# Altium schematic symbol library AltiumLib.SchLib: 341 symbols (part 2 of 5)
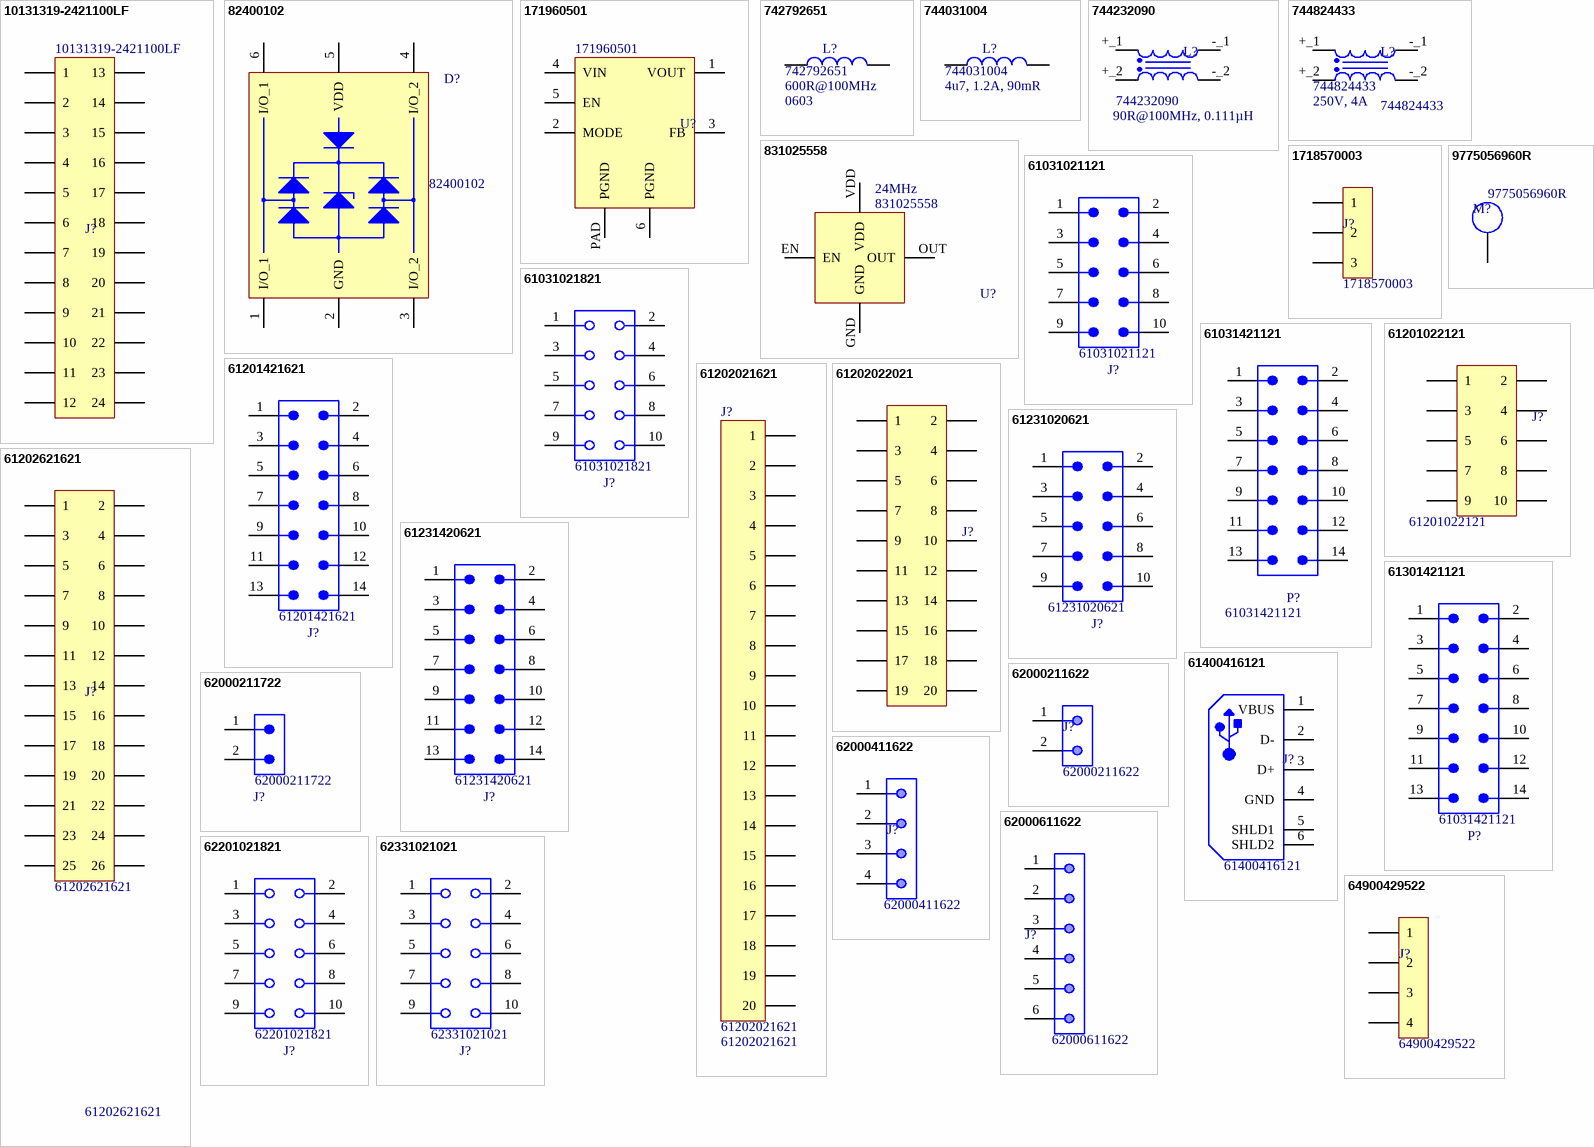
[diagram p20: symbols 10131319-2421100LF to 64900429522]

## 61202621621
designator J?
Board Connector, 26 Contact(s), 2 Row(s), Male, Straight, 0.1 inch Pitch, Solder Terminal, Locking, Black Insulator, Receptacle; Manufacturer: Würth Elektronik; Body Depth: 0.358inch; Number Of PCB Rows: 2; Contact Style: SQ PIN-SKT; Filter Feature: No; Rated Current (Signal): 3A; Insulation Resistance: 1GR; Reliability: COMMERCIAL; Contact Pattern: RECTANGULAR; PCB Contact Row Spacing: 2.54mm; Number of Contacts: 26; Contact Resistance: 20mR; Option: General Purpose; Dielectric Withstanding Voltage (AC): 500V; Body Length: 1.502inch; Number Of Connectors: 1; Polarization Key: POLARIZED HOUSING; Reference Standard: UL; Contact Finish - Mating: GOLD; Contact Gender: Male; Contact Material: Copper Alloy; Contact Finish - Termination: Gold (Au) - with Nickel (Ni) barrier; Termination: Solder; IEC Conformance: No; RoHS Compliant: Yes; Mating Contact Pitch: 0.1inch; Min Operating Temperature: -40°C; Number of Rows Loaded: 2; Body Breadth: 0.358inch; Max Operating Temperature: 125°C; JESD-609 Code: e4; DIN Conformance: No; Mounting Option 1: LOCKING; Flammability Rating: UL94 V-0; PCB Contact Pattern: RECTANGULAR; Insulation Material: Polybutylene; Terminal Length: 0.118inch; Insulation Color: Black; Reach SVHC Compliant: Yes; Connector Type: BOARD CONNECTOR; Sub-Category: Header; Mixed Contacts: No; Mating Contact Row Spacing: 0.1inch; Body/Shell Style: RECEPTACLE; Mounting Style: STRAIGHT; Terminal Pitch: 2.54mm; Category: Connector; MIL Conformance: No; Mount: Board; System: Connector; Manufacturer Part Number: 61202621621; Component Type: Standard_Connector; Value: 61202621621
footprint 61202621621 (WR-BHD 2.54 mm Male Box Header)
pins: 1, 2, 3, 4, 5, 6, 7, 8, 9, 10, 11, 12, 13, 14, 15, 16, 17, 18, 19, 20, 21, 22, 23, 24, 25, 26

## 61231020621
designator J?
WR-BHD Male Box Header, SMT Straight, pitch 2.54mm, 2 row, 10 pin; Manufacturer: Würth Elektronik; Contact Resistance: 20mOhm; Insulation Resistance: 1000MOhm; Rated Current: 3A; Working Voltage: 250V; Withstanding Voltage: 500V; Manufacturer Part Number: 61231020621; Category: Connector; Match Code: WR-BHD; ComponentLink1Description: Website Link; ComponentLink1URL: https://www.we-online.com/redexpert/article/61231020621?ad; ComponentLink2Description: Datasheet Link; ComponentLink2URL: https://www.we-online.com/redexpert/spec/61231020621?ad; Mount: Surface Mount; Operating Temperature Max: 125°C; Operating Temperature Min: -40°C; Packaging: Tape and Reel with Cap; Length: 20.5mm; Width: 9.1mm; Height: 9.1mm; Gender: Male; Number of Pins: 10; Number of Rows: 2; Orientation: Straight; Pitch: 2.54mm; Sub-Category: Header; Value: 61231020621
footprint 61231020621
pins: 1, 2, 3, 4, 5, 6, 7, 8, 9, 10

## 61231420621
designator J?
WR-BHD Male Box Header, SMT Straight, pitch 2.54mm, 2 row, 14 pin; Manufacturer: Würth Elektronik; Contact Resistance: 20mOhm; Insulation Resistance: 1000MOhm; Rated Current: 3A; Working Voltage: 250V; Withstanding Voltage: 500V; Manufacturer Part Number: 61231420621; Category: Connector; Match Code: WR-BHD; ComponentLink1Description: Website Link; ComponentLink1URL: https://www.we-online.com/redexpert/article/61231420621?ad; ComponentLink2Description: Datasheet Link; ComponentLink2URL: https://www.we-online.com/redexpert/spec/61231420621?ad; Mount: Surface Mount; Operating Temperature Max: 125°C; Operating Temperature Min: -40°C; Packaging: Tape and Reel with Cap; Length: 25.58mm; Width: 9.1mm; Height: 9.1mm; Gender: Male; Number of Pins: 14; Number of Rows: 2; Orientation: Straight; Pitch: 2.54mm; Sub-Category: Header; Value: 61231420621
footprint 61231420621
pins: 1, 2, 3, 4, 5, 6, 7, 8, 9, 10, 11, 12, 13, 14

## 61301421121
designator P?  value 61031421121  (hidden comment: 61301421121)
WR-PHD Pin Header, THT, Vertical, pitch 2.54mm, 2 Row, 14P; Manufacturer: Würth Elektronik; Contact Resistance: 20mOhm; Rated Current: 3A; Working Voltage: 250V; Withstanding Voltage: 500V; Manufacturer Part Number: 61301421121; Category: Connector; Match Code: WR-PHD; ComponentLink1Description: Website Link; ComponentLink1URL: https://www.we-online.com/redexpert/article/61301421121?ad; ComponentLink2Description: Datasheet Link; ComponentLink2URL: https://www.we-online.com/redexpert/spec/61301421121?ad; Mount: Through Hole; Operating Temperature Max: 105°C; Operating Temperature Min: -40°C; Packaging: Bag; Gender: Pin Header; Number of Pins: 14; Number of Rows: 2; Orientation: Vertical; Pitch: 2.54mm; Sub-Category: Header
footprint 61301421121
pins: 1, 2, 3, 4, 5, 6, 7, 8, 9, 10, 11, 12, 13, 14

## 61400416121
designator J?
USB Connector, 4 Contact(s), Female, Right Angle, Solder Terminal, Locking, Receptacle; Manufacturer: Würth Elektronik; IEC Conformance: No; PCB Contact Pattern: RECTANGULAR; Board Mounting Option: SOLDERABLE RETENTION CLIPS; Insulation Resistance: 1GR; Body Depth: 0.65inch; Connector Type: TELECOM AND DATACOM CONNECTOR; Body Breadth: 0.421inch; Polarization Key: POLARIZED HOUSING; Durability: 1500Cycles; Rated Current (Signal): 1.5A; Reliability: COMMERCIAL; Dielectric Withstanding Voltage (AC): 750V; Contact Resistance: 20mR; Number Of PCB Rows: 2; PCB Contact Row Spacing: 2.0066mm; Option: General Purpose; Body Length: 0.472inch; Number of Contacts: 4; Reference Standard: UL; Additional Feature: ROHS COMPLIANT; Number Of Connectors: 1; Contact Finish - Termination: Gold (Au); Category: Connector; Empty Shell: No; RoHS Compliant: Yes; Shell Material: Bronze; Mounting Style: RIGHT ANGLE; REACH SVHC: Yes; Min Operating Temperature: -40°C; Terminal Length: 0.126inch; Insulation Material: Polybutylene; MIL Conformance: No; Contact Style: USB; Mixed Contacts: No; Termination: Solder; Contact Gender: Female; Contact Material: Copper Alloy; Max Operating Temperature: 105°C; Shell Finish: Nickel; Body/Shell Style: RECEPTACLE; Mount: Board; Terminal Pitch: 2.4892mm; JESD-609 Code: e4; Contact Finish - Mating: GOLD; DIN Conformance: No; Flammability Rating: UL94 V-0; Mounting Option 1: LOCKING; Filter Feature: No; Sub-Category: USB; Mating Information: NO; System: Connector; Manufacturer Part Number: 61400416121; Component Type: Standard_Connector; Value: 61400416121
footprint 61400416121 (USB 2.0 Horizontal THT); pin to pad 5>Shell1 6>Shell2
pins: 1 VBUS, 2 D-, 3 D+, 4 GND, 5 SHLD1, 6 SHLD2

## 62000211622
designator J?
WR-WTB Male Vertical Shrouded Header, pitch 2mm, 2p; Manufacturer: Würth Elektronik; Pin Number: 2; Contact Resistance: 20mOhm; Rated Current: 2A; Withstanding Voltage: 800VAC; Working Voltage: 125VAC; ComponentLink1Description: Manufacturer; ComponentLink1URL: http://www.we-online.de; ComponentLink2Description: Datasheet; ComponentLink2URL: https://www.we-online.com/catalog/datasheet/62000211622.pdf; Pitch: 2mm; Published Date: January 2020; Mounting Technology: THT; Packaging: Bag; Operating Temperature: -25 to +85degC; Part Number: 62000211622; Gender: Male; Type: Vertical; Category: Connector; Sub-Category: Header; Value: 62000211622
footprint 62000211622 (2.00mm Male Vertical Shrouded Header, 2p)
pins: 1, 2

## 62000211722
designator J?
WR-WTB THT Male Horizontal Shrouded Header, pitch 2mm, 2pins; Manufacturer: Würth Elektronik; Contact Resistance: 20mOhm; Rated Current: 2A; Working Voltage: 125VAC; Withstanding Voltage: 800VAC; ComponentLink1Description: Website Link; ComponentLink1URL: https://www.we-online.com/redexpert/article/62000211722?ad; ComponentLink2Description: Datasheet Link; ComponentLink2URL: https://www.we-online.com/redexpert/spec/62000211722?ad; Manufacturer Part Number: 62000211722; Category: Connector; Match Code: WR-WTB; Mount: Through Hole; Operating Temperature Max: 85°C; Operating Temperature Min: -25°C; Packaging: Bag; Length: 6mm; Width: 7.6mm; Height: 4.5mm; Gender: Male; Number of Pins: 2; Number of Rows: 1; Orientation: Horizontal; Pitch: 2mm; Sub-Category: Header; Value: 62000211722
footprint 62000211722
pins: 1, 2

## 62000411622
designator J?
WR-WTB Male Vertical Shrouded Header, pitch 2mm, 4p; Manufacturer: Würth Elektronik; Pin Number: 4; Contact Resistance: 20mOhm; Rated Current: 2A; Withstanding Voltage: 800VAC; Working Voltage: 125VAC; ComponentLink1Description: Manufacturer; ComponentLink1URL: http://www.we-online.de; ComponentLink2Description: Datasheet; ComponentLink2URL: https://www.we-online.com/catalog/datasheet/62000411622.pdf; Pitch: 2mm; Published Date: January 2020; Mounting Technology: THT; Packaging: Bag; Operating Temperature: -25 to +85degC; Gender: Male; Type: Vertical; Category: Connector; Sub-Category: Header; Value: 62000411622
footprint 62000411622 (2.00mm Male Vertical Shrouded Header, 4p)
pins: 1, 2, 3, 4

## 62000611622
designator J?
WR-WTB Male Vertical Shrouded Header, pitch 2mm, 6p; Manufacturer: Würth Elektronik; Pin Number: 6; Contact Resistance: 20mOhm; Rated Current: 2A; Withstanding Voltage: 800VAC; Working Voltage: 125VAC; ComponentLink1Description: Manufacturer; ComponentLink1URL: http://www.we-online.de; ComponentLink2Description: Datasheet; ComponentLink2URL: https://www.we-online.com/catalog/datasheet/62000611622.pdf; Pitch: 2mm; Published Date: January 2020; Mounting Technology: THT; Packaging: Bag; Operating Temperature: -25 to +85degC; Gender: Male; Type: Vertical; Category: Connector; Sub-Category: Header; Value: 62000611622
footprint 62000611622 (2.00mm Male Vertical Shrouded Header, 6p)
pins: 1, 2, 3, 4, 5, 6

## 62201021821
designator J?
WR-PHD Socket Header, THT, Vertical, pitch 1.27mm, 2 Row, 10P; Manufacturer: Würth Elektronik; Contact Resistance: 20mOhm; Rated Current: 1A; Working Voltage: 250V; Withstanding Voltage: 500V; Manufacturer Part Number: 62201021821; Category: Connector; Match Code: WR-PHD; ComponentLink1Description: Website Link; ComponentLink1URL: https://www.we-online.com/redexpert/article/62201021821?ad; ComponentLink2Description: Datasheet Link; ComponentLink2URL: https://www.we-online.com/redexpert/spec/62201021821?ad; Mount: Through Hole; Operating Temperature Max: 105°C; Operating Temperature Min: -40°C; Packaging: Tube; Gender: Socket Header; Number of Pins: 10; Number of Rows: 2; Orientation: Vertical; Pitch: 1.27mm; Sub-Category: Header; Value: 62201021821
footprint 62201021821
pins: 1, 2, 3, 4, 5, 6, 7, 8, 9, 10

## 62331021021
designator J?
WR-PHD Socket Header, SMT, Vertical, pitch 1.27mm, 2 Row, 10P; Manufacturer: Würth Elektronik; Contact Resistance: 20mOhm; Rated Current: 1A; Working Voltage: 250V; Withstanding Voltage: 500V; Manufacturer Part Number: 62331021021; Category: Connector; Match Code: WR-PHD; ComponentLink1Description: Website Link; ComponentLink1URL: https://www.we-online.com/redexpert/article/62331021021?ad; ComponentLink2Description: Datasheet Link; ComponentLink2URL: https://www.we-online.com/redexpert/spec/62331021021?ad; Mount: Surface Mount; Operating Temperature Max: 105°C; Operating Temperature Min: -40°C; Packaging: Tape and Reel; Gender: Socket Header; Number of Pins: 10; Number of Rows: 2; Orientation: Vertical; Pitch: 1.27mm; Sub-Category: Socket; Value: 62331021021
footprint 62331021021
pins: 1, 2, 3, 4, 5, 6, 7, 8, 9, 10

## 64900429522
designator J?
Board Connector, 4 Contact(s), 2 Row(s), Male, Right Angle, 0.165 inch Pitch, Solder Terminal, Locking, White Insulator, Receptacle; Manufacturer: Würth Elektronik; Manufacturer Series: 6490; Body Breadth: 0.394inch; Dielectric Withstanding Voltage (AC): 1.5kV; Rated Current (Signal): 8A; Body Length: 0.378inch; Number of Rows Loaded: 2; Contact Pattern: RECTANGULAR; Number of Contacts: 4; Body Depth: 0.764inch; Polarization Key: POLARIZED HOUSING; Mixed Contacts: Yes; Durability: 25Cycles; Number Of Connectors: 1; Contact Resistance: 10mR; PCB Contact Row Spacing: 5.5118mm; Contact Style: SQ PIN-SKT; Additional Feature: ROHS COMPLIANT; Insulation Resistance: 1GR; Reliability: COMMERCIAL; Reference Standard: UL; RoHS Compliant: Yes; Max Operating Temperature: 105°C; JESD-609 Code: e3; Reach SVHC Compliant: Yes; Contact Finish - Termination: Tin (Sn) - with Nickel (Ni) barrier; Terminal Length: 0.142inch; Mounting Style: RIGHT ANGLE; Body/Shell Style: RECEPTACLE; Mating Contact Pitch: 0.165inch; Category: Connector; Mating Contact Row Spacing: 0.165inch; Mounting Technology: Board; Number Of PCB Rows: 2; PCB Contact Pattern: RECTANGULAR; Termination: Solder; Mounting Option 1: LOCKING; Contact Finish - Mating: SN; Sub-Category: Header; Contact Gender: Male; Insulation Color: White; Insulation Material: Nylon; Terminal Pitch: 4.191mm; Min Operating Temperature: -40°C; Connector Type: BOARD CONNECTOR; Contact Material: Copper Alloy; System: Connector; Manufacturer Part Number: 64900429522; Component Type: Standard_Connector; Value: 64900429522
footprint 64900429522 (WR-MPC4 4.20 mm Male Dual Row Angled Header)
pins: 1, 2, 3, 4

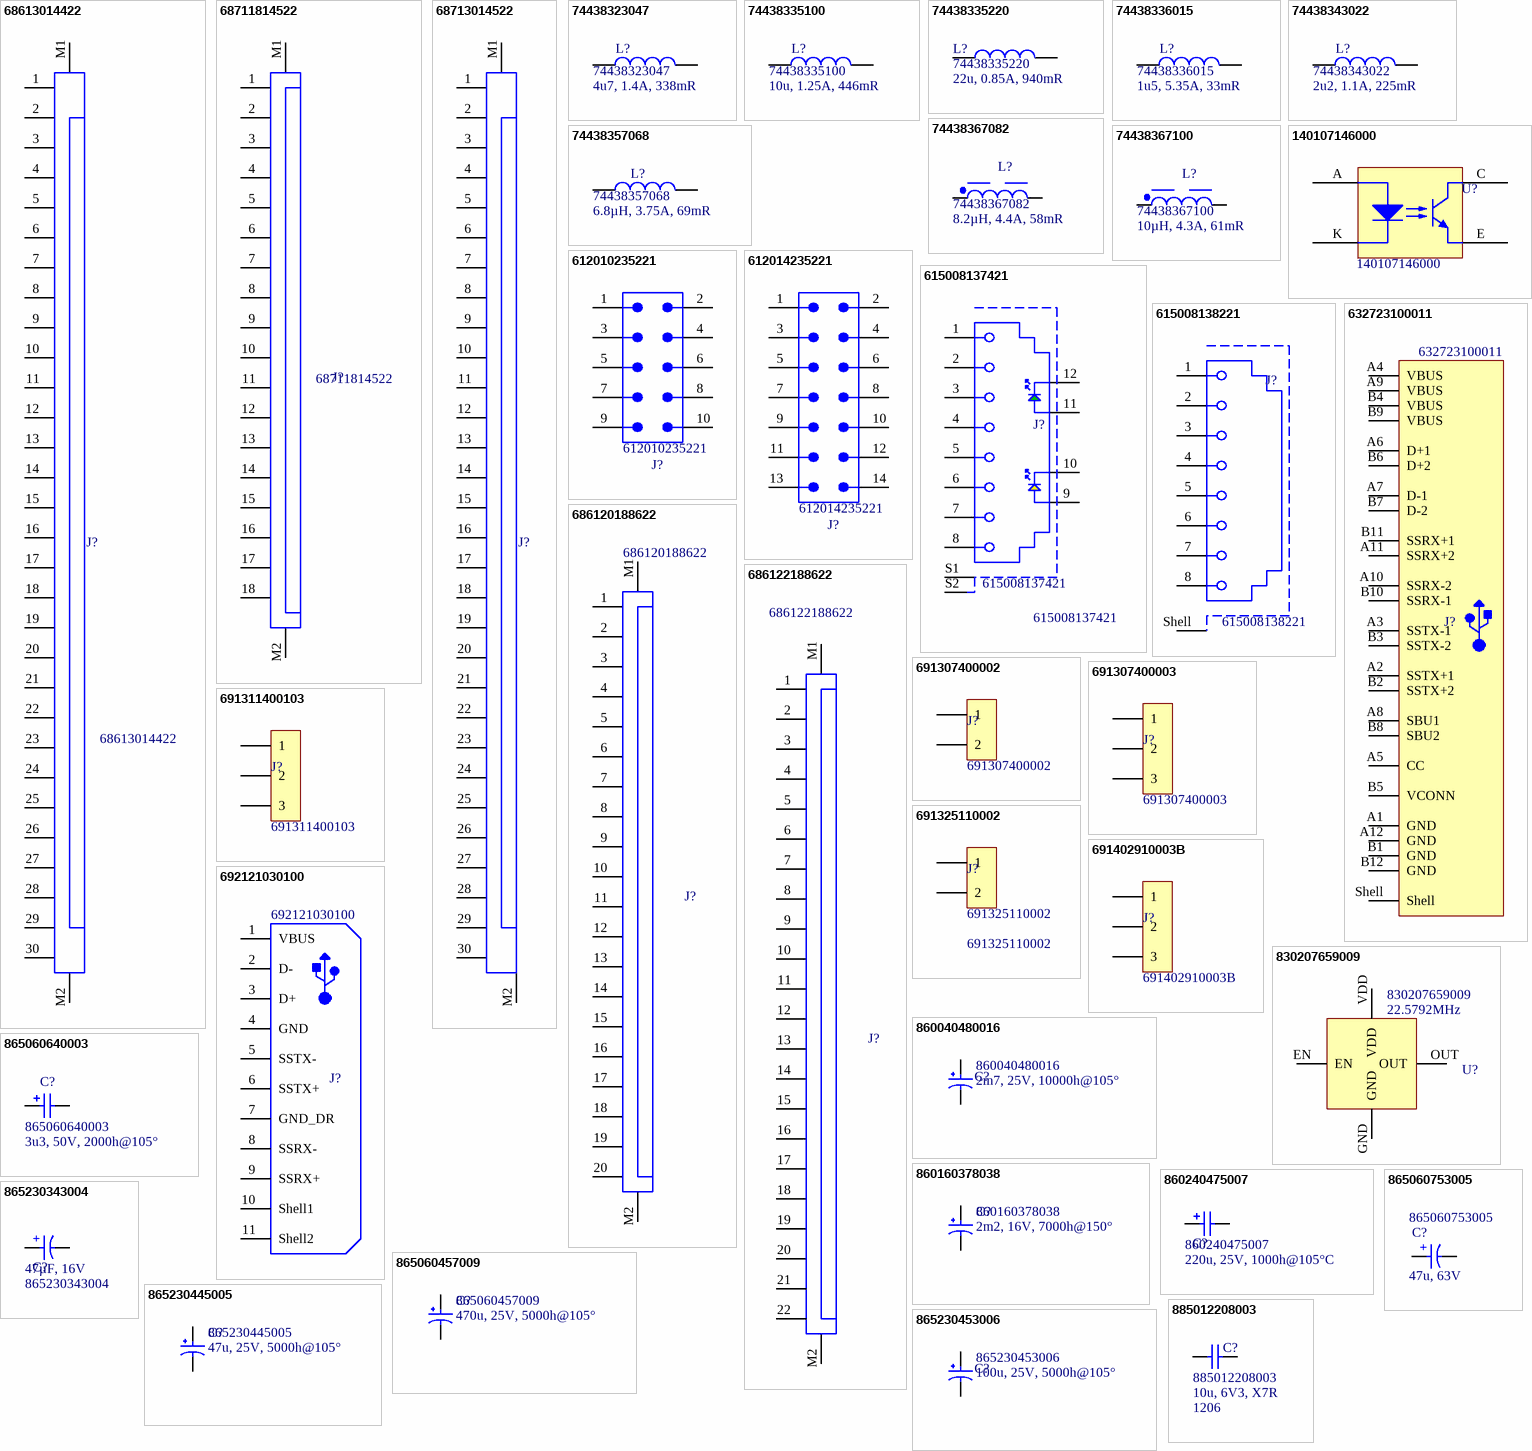
[diagram p2: symbols 68613014422 to 885012208003]

## 68613014422
designator J?
WR-FPC SMT ZIF Horizontal Bottom Contact, pitch 1mm, Horizontal, 30pins; Manufacturer: Würth Elektronik; Contact Resistance: 20mΩ; Rated Current: 1A; Working Voltage: 125VAC; ComponentLink1Description: Website Link; ComponentLink1URL: https://www.we-online.com/redexpert/article/68613014422?ad; ComponentLink2Description: Datasheet Link; ComponentLink2URL: https://www.we-online.com/redexpert/spec/68613014422?ad; Category: Connector; Match Code: WR-FPC; Mount: Surface Mount; Operating Temperature Max: 85°C; Operating Temperature Min: -25°C; Packaging: Tape and Reel; Length: 37mm; Width: 7.1mm; Height: 3mm; Number of Pins: 30; Orientation: Horizontal; Pitch: 1mm; Sub-Category: FPC; Value: 68613014422
footprint 68613014422 (ZIF Connectors, Horizontal, Bottom Contact, pitch 1mm, 30p)
pins: 1, 2, 3, 4, 5, 6, 7, 8, 9, 10, 11, 12, 13, 14, 15, 16, 17, 18, 19, 20, 21, 22, 23, 24, 25, 26, 27, 28, 29, 30, M1, M2

## 68711814522
designator J?
FFC/FPC Connector, 18 Contact(s), 1 Row(s), Female, Right Angle, 0.02 inch Pitch, Surface Mount Terminal, Locking, Ivory Insulator; Manufacturer: Würth Elektronik; Number Of PCB Rows: 1; Body Depth: 0.201inch; Rated Current (Signal): 500mA; Contact Style: BELLOWED TYPE; Filter Feature: No; Body Breadth: 0.083inch; Insulation Resistance: 100MR; Durability: 25Cycles; Dielectric Withstanding Voltage (AC): 250V; Plating Thickness: 100uin; Reference Standard: UL; Reliability: COMMERCIAL; Contact Pattern: RECTANGULAR; Number of Contacts: 18; Option: General Purpose; Contact Resistance: 20mR; Body Length: 0.606inch; Connector Type: CARD EDGE CONNECTOR; Category: Connector; Insulation Material: Polymer; Sub-Category: FPC; MIL Conformance: No; Max Operating Temperature: 85°C; Min Operating Temperature: -25°C; Reach SVHC Compliant: Yes; Mating Contact Pitch: 0.02inch; Termination: SMD/SMT; Contact Finish - Mating: TIN (100) OVER NICKEL (50); Mounting Style: RIGHT ANGLE; Contact Gender: Female; IEC Conformance: No; Mounting Option 1: LOCKING; RoHS Compliant: Yes; Number of Rows Loaded: 1; Mounting Technology: Board; Insulation Color: Beige; Terminal Pitch: 0.5mm; Contact Finish - Termination: Tin (Sn) - with Nickel (Ni) barrier; Mixed Contacts: No; Contact Material: Bronze; JESD-609 Code: e3; PCB Contact Pattern: RECTANGULAR; DIN Conformance: No; Flammability Rating: UL94 V-0; Manufacturer Part Number: 68711814522; Component Type: Standard_Connector; Value: 68711814522
footprint 68711814522 (0.50 mm SMT ZIF Horizontal Bottom Contact)
pins: 1, 2, 3, 4, 5, 6, 7, 8, 9, 10, 11, 12, 13, 14, 15, 16, 17, 18, M1, M2

## 68713014522
designator J?  (value not drawn)
WR-FPC SMT ZIF Horizontal Bottom Contact, pitch 0.5mm, Horizontal, 30pins; Manufacturer: Würth Elektronik; Contact Resistance: 20mΩ; Rated Current: 0.5A; Working Voltage: 50VAC; ComponentLink1Description: Website Link; ComponentLink1URL: https://www.we-online.com/redexpert/article/68713014522?ad; ComponentLink2Description: Datasheet Link; ComponentLink2URL: https://www.we-online.com/redexpert/spec/68713014522?ad; Manufacturer Part Number: 68713014522; Category: Connector; Match Code: WR-FPC; Mount: Surface Mount; Operating Temperature Max: 85°C; Operating Temperature Min: -25°C; Packaging: Tape and Reel; Length: 21.4mm; Width: 5.1mm; Height: 2.1mm; Number of Pins: 30; Orientation: Horizontal; Pitch: 0.5mm; Value: 68713014522; Sub-Category: FPC
footprint 68713014522 (ZIF Connectors, Horizontal, Bottom Contact, pitch 0.5mm, 30p)
pins: 1, 2, 3, 4, 5, 6, 7, 8, 9, 10, 11, 12, 13, 14, 15, 16, 17, 18, 19, 20, 21, 22, 23, 24, 25, 26, 27, 28, 29, 30, M1, M2

## 74438323047
designator L?  Notes: 4u7, 1.4A, 338mR  (hidden comment: 74438323047)
General Purpose Inductor, 4.7uH, 20%, 1 Element, SMD, 1008; Manufacturer: Würth Elektronik; Shape/Size Description: RECTANGULAR PACKAGE; Number of Functions: 1; Test Frequency: 100kHz; Self Resonant Frequency: 35MHz; Inductor Application: POWER INDUCTOR; Shielding: Shielded; Case/Size Code: 1008; DC Resistance (DCR): 388mR; Rated Current-Max: 940mA; Termination: One Surface; Max Operating Temperature: 125°C; Min Operating Temperature: -40°C; REACH SVHC: Yes; RoHS Compliant: Yes; Terminal Placement: Dual Ended; Sub-Category: Power; Tolerance: 20%; Number of Pins: 2; Inductance-Nom (L): 4.7uH; Surface Mount: Yes; Inductor Type: GENERAL PURPOSE INDUCTOR; Category: Inductor; Manufacturer Part Number: 74438323047; Component Type: Standard_Passive_L; Value: 74438323047
footprint WE-MAPI_2510 (SMT Shielded Power Inductor, body 2..5x2mm)
pins: 1, 2

## 74438335100
designator L?  Notes: 10u, 1.25A, 446mR  (hidden comment: 74438335100)
General Purpose Inductor, 10uH, 20%, 1 Element, SMD, 1212; Manufacturer: Würth Elektronik; Self Resonant Frequency: 21MHz; Test Frequency: 100kHz; Inductor Application: POWER INDUCTOR; Case/Size Code: 1212; Rated Current-Max: 850mA; Shape/Size Description: RECTANGULAR PACKAGE; DC Resistance (DCR): 513mR; Shielding: Shielded; Number of Functions: 1; Tolerance: 20%; Inductor Type: GENERAL PURPOSE INDUCTOR; REACH SVHC: Yes; Number of Pins: 2; Max Operating Temperature: 125°C; RoHS Compliant: Yes; Category: Inductor; Surface Mount: Yes; Sub-Category: Power; Termination: One Surface; Inductance-Nom (L): 10uH; Min Operating Temperature: -40°C; Terminal Placement: Dual Ended; Manufacturer Part Number: 74438335100; Component Type: Standard_Passive_L; Value: 74438335100
footprint WE_MAPI_3015
pins: 1, 2

## 74438335220
designator L?  Notes: 22u, 0.85A, 940mR  (hidden comment: 74438335220)
General Purpose Inductor, 22uH, 20%, 1 Element, SMD, 1212; Manufacturer: Würth Elektronik; DC Resistance (DCR): 1.04R; Shielding: Shielded; Test Frequency: 100kHz; Rated Current-Max: 600mA; Number of Functions: 1; Case/Size Code: 1212; Shape/Size Description: RECTANGULAR PACKAGE; Inductor Application: POWER INDUCTOR; Self Resonant Frequency: 12MHz; Surface Mount: Yes; Sub-Category: Power; Category: Inductor; Min Operating Temperature: -40°C; Manufacturer Series: 74438335220; Termination: One Surface; REACH SVHC: Yes; Terminal Placement: Dual Ended; Tolerance: 20%; Terminal Finish: Nickel; JESD-609 Code: e3; Max Operating Temperature: 125°C; Number of Pins: 2; Inductance-Nom (L): 22uH; RoHS Compliant: Yes; Inductor Type: GENERAL PURPOSE INDUCTOR; Manufacturer Part Number: 74438335220; Component Type: Standard_Passive_L; Value: 74438335220
footprint WE-MAPI_3015 (MAPI SMD Inductor)
pins: 1, 2

## 74438336015
designator L?  Notes: 1u5, 5.35A, 33mR  (hidden comment: 74438336015)
General Purpose Inductor, 1.5uH, 20%, 1 Element, SMD, 1212; Manufacturer: Würth Elektronik; Test Frequency: 100kHz; Self Resonant Frequency: 51MHz; Case/Size Code: 1212; Rated Current-Max: 3.7A; Number of Functions: 1; Shielding: Shielded; DC Resistance (DCR): 39mR; Shape/Size Description: RECTANGULAR PACKAGE; Inductor Application: POWER INDUCTOR; Max Operating Temperature: 125°C; Terminal Placement: Dual Ended; Inductance-Nom (L): 1.5uH; Termination: One Surface; Surface Mount: Yes; Min Operating Temperature: -40°C; REACH SVHC: Yes; Number of Pins: 2; RoHS Compliant: Yes; Tolerance: 20%; Category: Inductor; Inductor Type: GENERAL PURPOSE INDUCTOR; Sub-Category: Power; Manufacturer Part Number: 74438336015; Component Type: Standard_Passive_L; Value: 74438336015
footprint WE-MAPI_3020 (WE-MAPI SMT Power Inductor)
pins: 1, 2

## 74438343022
designator L?  Notes: 2u2, 1.1A, 225mR  (hidden comment: 74438343022)
General Purpose Inductor, 2.2uH, 20%, 1 Element, SMD, 0806; Manufacturer: Würth Elektronik; Case/Size Code: 0806; Shielding: Shielded; Test Frequency: 100kHz; Number of Functions: 1; DC Resistance (DCR): 270mR; Inductor Application: POWER INDUCTOR; Rated Current-Max: 1.1A; Shape/Size Description: RECTANGULAR PACKAGE; Self Resonant Frequency: 70MHz; Tolerance: 20%; Sub-Category: Power; Max Operating Temperature: 125°C; REACH SVHC: Yes; Inductance-Nom (L): 2.2uH; Category: Inductor; Termination: One Surface; Inductor Type: GENERAL PURPOSE INDUCTOR; RoHS Compliant: Yes; Number of Pins: 2; Min Operating Temperature: -40°C; Terminal Placement: Dual Ended; Surface Mount: Yes; Manufacturer Part Number: 74438343022; Component Type: Standard_Passive_L; Value: 74438343022
footprint WE-MAPI_2010 (MAPI SMD Inductor 2010 format by Wurth Elektronik)
pins: 1, 2

## 74438357068
designator L?  Notes: 6.8µH, 3.75A, 69mR  (hidden comment: 74438357068)
WE-MAPI SMT Power Inductor; Manufacturer: Würth Elektronik; Category: Inductor; Sub-Category: Power; Value: 74438357068
footprint WE-MAPI_4030 (SMT Shielded Power Inductor, body 4.1x4.1mm)
pins: 1, 2

## 74438367082
designator L?  Notes: 8.2µH, 4.4A, 58mR  (hidden comment: 74438367082)
WE-MAPI, size 5030, 8.2uH, 4.4A, 57.5mOhm; Manufacturer: Würth Elektronik; Case/Size Code: 5030; DC Resistance: 50mOhm; Saturation Current: 5A; Self Resonant Frequency: 13MHz; Manufacturer Part Number: 74438367082; Match Code: WE-MAPI; ComponentLink1Description: Website Link; ComponentLink1URL: https://www.we-online.com/redexpert/article/74438367082?ad; ComponentLink2Description: Datasheet Link; ComponentLink2URL: https://www.we-online.com/redexpert/spec/74438367082?ad; Mount: Surface Mount; Operating Temperature Max: 125°C; Operating Temperature Min: -40°C; Packaging: Tape and Reel; Length: 5.4mm; Width: 5.4mm; Height: 3.1mm; DC Resistance Max: 57.5mOhm; Inductance: 8.2uH; Rated Current: 4.4A; Category: Inductor; Sub-Category: Power; Value: 74438367082
footprint WE-MAPI_5030
pins: 1, 2

## 74438367100
designator L?  Notes: 10µH, 4.3A, 61mR  (hidden comment: 74438367100)
WE-MAPI SMT Power Inductor, size 5030, 10μH, 4.3A, 13MHz; Manufacturer: Würth Elektronik; Case/Size Code: 5030; DC Resistance: 61mΩ; Operating Voltage (DC): 80V; Saturation Current @ 30%: 6.6A; Manufacturer Part Number: 74438367100; Category: Inductor; Match Code: WE-MAPI; ComponentLink1Description: Website Link; ComponentLink1URL: https://www.we-online.com/redexpert/article/74438367100?ad; ComponentLink2Description: Datasheet Link; ComponentLink2URL: https://www.we-online.com/redexpert/spec/74438367100?ad; Mount: Surface Mount; Min Operating Temperature: -40°C; Max Operating Temperature: 125°C; Packaging: Tape and Reel; Length: 5.4mm; Width: 5.4mm; Height: 3.1mm; Inductance: 10μH; Performance Rated Current: 4.3A; Self Resonant Frequency: 13MHz; Sub-Category: Power; Value: 74438367100
footprint WE-MAPI_5030
pins: 1, 2

## 140107146000
designator U?
Transistor Output Optocoupler; Manufacturer: Würth Elektronik; Category: IC; Sub-Category: Optical; Manufacturer Part Number: 140107146000; Component Type: Standard_IC_Optical; Value: 140107146000
footprint 140107146000 (Optocoupler Phototransistor); pin to pad A>1 C>4 E>3 K>2
pins: A, C, E, K

## 612010235221
designator J?
WR-BHD Male Box Header, THT Right Angle, pitch 2.54mm, 2 row, 10 pin; Manufacturer: Würth Elektronik; Contact Resistance: 20mOhm; Insulation Resistance: 1000MOhm; Rated Current: 3A; Working Voltage: 250V; Withstanding Voltage: 500V; Manufacturer Part Number: 612010235221; Category: Connector; Match Code: WR-BHD; ComponentLink1Description: Website Link; ComponentLink1URL: https://www.we-online.com/redexpert/article/612010235221?ad; ComponentLink2Description: Datasheet Link; ComponentLink2URL: https://www.we-online.com/redexpert/spec/612010235221?ad; Mount: Through Hole; Operating Temperature Max: 125°C; Operating Temperature Min: -40°C; Packaging: Tray; Length: 20.3mm; Width: 13.19mm; Height: 9.05mm; Gender: Male; Number of Pins: 10; Number of Rows: 2; Orientation: Right Angle; Pitch: 2.54mm; Sub-Category: Header; Value: 612010235221
footprint 612010235221
pins: 1, 2, 3, 4, 5, 6, 7, 8, 9, 10

## 612014235221
designator J?
WR-BHD Male Box Header, THT Right Angle, pitch 2.54mm, 2 row, 14 pin; Manufacturer: Würth Elektronik; Contact Resistance: 20mOhm; Insulation Resistance: 1000MOhm; Rated Current: 3A; Working Voltage: 250V; Withstanding Voltage: 500V; Manufacturer Part Number: 612014235221; Category: Connector; Match Code: WR-BHD; ComponentLink1Description: Website Link; ComponentLink1URL: https://www.we-online.com/redexpert/article/612014235221?ad; ComponentLink2Description: Datasheet Link; ComponentLink2URL: https://www.we-online.com/redexpert/spec/612014235221?ad; Mount: Through Hole; Operating Temperature Max: 125°C; Operating Temperature Min: -40°C; Packaging: Tray; Length: 25.38mm; Width: 13.19mm; Height: 9.05mm; Gender: Male; Number of Pins: 14; Number of Rows: 2; Orientation: Right Angle; Pitch: 2.54mm; Sub-Category: Header; Value: 612014235221
footprint 612014235221
pins: 1, 2, 3, 4, 5, 6, 7, 8, 9, 10, 11, 12, 13, 14

## 615008137421
designator J?
Telecom and Datacom Connector, 8 Contact(s), Female, Right Angle, Solder Terminal, Locking, Receptacle; Manufacturer: Würth Elektronik; Insulation Resistance: 500MR; Body Length: 0.65inch; Additional Feature: Shielded; Empty Shell: No; Body Depth: 0.62inch; Dielectric Withstanding Voltage (AC): 1kV; Rated Current (Signal): 1.5A; Option: General Purpose; Body Breadth: 0.522inch; Contact Resistance: 20mR; Reference Standard: UL; Number of Contacts: 8; Board Mounting Option: SPLIT BOARD LOCK; Durability: 500Cycles; Contact Style: TELCOM, MODULAR; Reliability: COMMERCIAL; PCB Contact Pattern: STAGGERED; Number of Ports: 1; Shell Finish: Nickel; Terminal Pitch: 2.032mm; Insulation Color: Black; Max Operating Temperature: 85°C; Contact Finish - Termination: Gold (Au) - with Nickel (Ni) barrier; Shell Material: Bronze; Terminal Length: 0.113inch; Mounting Style: RIGHT ANGLE; Manufacturer Series: 615008137421; Sub-Category: RJ45; Filter Feature: No; Flammability Rating: UL94 V-0; Min Operating Temperature: -40°C; DIN Conformance: No; Contact Finish - Mating: GOLD; Mount: Panel,Board; Mounting Option 1: LOCKING; IEC Conformance: No; RoHS Compliant: Yes; Termination: Solder; Insulation Material: Glass; JESD-609 Code: e4; Contact Material: Copper Alloy; Contact Gender: Female; REACH SVHC: Yes; Mixed Contacts: No; Body/Shell Style: RECEPTACLE; Connector Type: TELECOM AND DATACOM CONNECTOR; MIL Conformance: No; Category: Connector; System: Connector; Manufacturer Part Number: 615008137421; Component Type: Standard_Connector; Value: 615008137421
footprint 615008137421 (Through Hole Ethernet Connector)
pins: 1, 2, 3, 4, 5, 6, 7, 8, 9, 10, 11, 12, S1, S2

## 615008138221
designator J?
Telecom and Datacom Connector, 8 Contact(s), Male, Straight, Solder Terminal, Locking, Receptacle; Manufacturer: Würth Elektronik; PCB Contact Pattern: STAGGERED; Rated Current (Signal): 1.5A; Durability: 500Cycles; Additional Feature: ROHS COMPLIANT; Reliability: COMMERCIAL; Number of Contacts: 8; Contact Resistance: 20mR; Number of Ports: 1; Dielectric Withstanding Voltage (AC): 1kV; Contact Style: TELCOM, MODULAR; Reference Standard: UL; Body Depth: 0.654inch; Board Mounting Option: SPLIT BOARD LOCK; Insulation Resistance: 500MR; Body Length: 0.63inch; Body Breadth: 0.656inch; RoHS Compliant: Yes; Sub-Category: RJ45; Category: Connector; Shell Material: Bronze; Contact Gender: Male; Mount: Board; JESD-609 Code: e4; Terminal Length: 0.126inch; Terminal Pitch: 2.54mm; Insulation Color: Black; Mounting Style: STRAIGHT; Contact Finish - Termination: Gold (Au) - with Nickel (Ni) barrier; Termination: Solder; Min Operating Temperature: -40°C; Connector Type: TELECOM AND DATACOM CONNECTOR; REACH SVHC: Yes; Body/Shell Style: RECEPTACLE; Shell Finish: Nickel; Max Operating Temperature: 85°C; Insulation Material: Glass; Mounting Option 1: LOCKING; Manufacturer Series: 615008138221; Contact Finish - Mating: NOT SPECIFIED; System: Connector; Manufacturer Part Number: 615008138221; Component Type: Standard_Connector; Value: 615008138221
footprint 615008138221 (Modular Jack Vertical Shielded 8P8C Front Post)
pins: 1, 2, 3, 4, 5, 6, 7, 8, Shell

## 632723100011
designator J?
USB Connector, 24 Contact(s), Female, Right Angle, Solder and Surface Mount Terminal, Receptacle; Manufacturer: Würth Elektronik; Mixed Contacts: No; Connector Type: TELECOM AND DATACOM CONNECTOR; Number of Contacts: 24; Option: General Purpose; RoHS Compliant: Yes; Body/Shell Style: RECEPTACLE; IEC Conformance: No; Contact Material: Brass; Reach SVHC Compliant: Yes; Contact Finish - Mating: NOT SPECIFIED; Category: Connectors; Flammability Rating: UL94 V-0; Mounting Style: RIGHT ANGLE; Sub-Category: USB; Empty Shell: No; Contact Finish - Termination: GOLD OVER PALLADIUM NICKEL; MIL Conformance: No; Contact Gender: Female; Termination: Solder; DIN Conformance: No; Insulation Material: Polymer; Filter Feature: No; Mounting Technology: Board; JESD-609 Code: e4; Manufacturer Part Number: 632723100011; Value: 632723100011
footprint 632723100011 (WR-COM USB 3.1 Type C Receptacle Horizontal THR / SMT)
pins: A1 GND, A2 SSTX+1, A3 SSTX-1, A4 VBUS, A5 CC, A6 D+1, A7 D-1, A8 SBU1, A9 VBUS, A10 SSRX-2, A11 SSRX+2, A12 GND, B1 GND, B2 SSTX+2, B3 SSTX-2, B4 VBUS, B5 VCONN, B6 D+2, B7 D-2, B8 SBU2, B9 VBUS, B10 SSRX-1, B11 SSRX+1, B12 GND, Shell

## 686120188622
designator J?
Connector, Ffc, 20Pos, 1 Row, 1Mm Rohs Compliant: Yes; Manufacturer: Würth Elektronik; Category: Connector; Sub-Category: FPC; System: Connector; Manufacturer Part Number: 686120188622; Component Type: Standard_Connector; Value: 686120188622
footprint 686120188622 (1.00 mm SMT LIF Horizontal Top Contact)
pins: 1, 2, 3, 4, 5, 6, 7, 8, 9, 10, 11, 12, 13, 14, 15, 16, 17, 18, 19, 20, M1, M2

## 686122188622
designator J?
Connector, Ffc, 22Pos, 1 Row, 1Mm Rohs Compliant: Yes; Manufacturer: Würth Elektronik; Category: Connector; Sub-Category: FPC; System: Connector; Manufacturer Part Number: 686122188622; Component Type: Standard_Connector; Value: 686122188622
footprint 686122188622 (1.00 mm SMT LIF Horizontal Top Contact)
pins: 1, 2, 3, 4, 5, 6, 7, 8, 9, 10, 11, 12, 13, 14, 15, 16, 17, 18, 19, 20, 21, 22, M1, M2

## 691307400002
designator J?
7.62 mm Reversed Gender Vertical PCB Header; Manufacturer Series: 3074; Manufacturer: Würth Elektronik; System: Connector; Sub-Category: Bloc; Terminal and Terminal Block Type: BARRIER STRIP TERMINAL BLOCK; Reach SVHC Compliant: Yes; RoHS Compliant: Yes; Category: Connector; Manufacturer Part Number: 691307400002; Component Type: Standard_Connector; Value: 691307400002
footprint 691307400002 (WR-TBL Series 3074 - 7.62 mm Reversed Gender Vertical PCB Header)
pins: 1, 2

## 691307400003
designator J?
Reverse Gender Barrier Strip Terminal Block; Manufacturer: Würth Elektronik; Manufacturer Series: 3074; System: Connector; Reach SVHC Compliant: Yes; Sub-Category: Bloc; RoHS Compliant: Yes; Category: Connector; Terminal and Terminal Block Type: BARRIER STRIP TERMINAL BLOCK; Manufacturer Part Number: 691307400003; Component Type: Standard_Connector; Value: 691307400003
footprint 691307400003 (WR-TBL Series 3074 - 7.62 mm Reversed Gender Vertical PCB Header)
pins: 1, 2, 3

## 691311400103
designator J?
Barrier Strip Terminal Block; Manufacturer: Würth Elektronik; System: Connector; Category: Connector; RoHS Compliant: Yes; REACH SVHC: Yes; Sub-Category: Bloc; Terminal and Terminal Block Type: BARRIER STRIP TERMINAL BLOCK; Manufacturer Part Number: 691311400103; Component Type: Standard_Connector; Value: 691311400103
footprint 691311400103 (WR-TBL Series 3114 - 7.62 mm Close Vertical PCB Header)
pins: 1, 2, 3

## 691325110002
designator J?
Strip Terminal Block, 10A, 1 Row(s), 1 Deck(s); Manufacturer Series: 3251; Manufacturer: Würth Elektronik; Number of Decks: 1; Voltage Rating: 300V; Safety Approval: UL,VDE; Number of Ways: 2; Fastening Method: SOLDER; Mount: Panel,Board; Terminal and Terminal Block Type: STRIP TERMINAL BLOCK; RoHS Compliant: Yes; Sub-Category: Bloc; Category: Connector; Number of Rows: 1; Current Rating: 10A; REACH SVHC: No SVHC; Manufacturer Part Number: 691325110002; Component Type: Standard_Connector; Value: 691325110002
footprint 691325110002 (3.50 mm Horizontal PCB Header with Flanges WR-TBL Series 3251)
pins: 1, 2

## 691402910003B
designator J?
WR-TBL Series 4029 - 2.54 mm Screwless Horizontal Entry; Manufacturer: Würth Elektronik; Sub-Category: Bloc; Category: Connector; Component Type: Standard_Connector; Value: 691402910003B
footprint 691402910003B (2.54 mm Screwless Horizontal Entry / WR-TBL Series 4029)
pins: 1, 2, 3

## 692121030100
designator J?
USB Connector, 9 Contact(s), Female, Right Angle, Solder Terminal, Locking, Plug; Manufacturer: Würth Elektronik; Number Of Connectors: 1; Filter Feature: No; Reference Standard: UL; Rated Current (Signal): 1.8A; Insulation Resistance: 100MR; Number Of PCB Rows: 2; Durability: 5000Cycles; Polarization Key: POLARIZED HOUSING; PCB Contact Row Spacing: 1.4986mm; Option: General Purpose; Reliability: COMMERCIAL; Dielectric Withstanding Voltage (AC): 100V; Number of Contacts: 9; Board Mounting Option: SOLDER HOLDING FLANGE; Connector Type: TELECOM AND DATACOM CONNECTOR; PCB Contact Pattern: STAGGERED; Body Breadth: 0.275inch; Body Depth: 0.649inch; Body Length: 0.543inch; Contact Style: USB; Contact Material: Bronze; Manufacturer Series: 692121030100; Max Operating Temperature: 85°C; Mounting Option 1: LOCKING; Mixed Contacts: No; Mounting Technology: Board; Min Operating Temperature: -20°C; Insulation Material: Polymer; Flammability Rating: UL94 V-0; Contact Finish - Termination: Tin (Sn) - with Nickel (Ni) barrier; Reach SVHC Compliant: Yes; MIL Conformance: No; Empty Shell: No; Terminal Length: 0.106inch; JESD-609 Code: e3; Shell Material: Brass; DIN Conformance: No; Body/Shell Style: PLUG; RoHS Compliant: Yes; Terminal Pitch: 2.0066mm; Category: Connector; Contact Finish - Mating: GOLD; IEC Conformance: No; Contact Gender: Female; Sub-Category: USB; Termination: Solder; Shell Finish: Tin; Mounting Style: RIGHT ANGLE; System: Connector; Manufacturer Part Number: 692121030100; Component Type: Standard_Connector; Value: 692121030100
footprint 692121030100 (WR-COM USB 3.0 Type A Horizontal); pin to pad 10>Shell1 11>Shell2
pins: 1 VBUS, 2 D-, 3 D+, 4 GND, 5 SSTX-, 6 SSTX+, 7 GND_DR, 8 SSRX-, 9 SSRX+, 10 Shell1, 11 Shell2

## 830207659009
designator U?  Notes: 22.5792MHz  (hidden comment: 830207659009)
CMOS Output Clock Oscillator, 22.5792MHz Nom; Manufacturer: Würth Elektronik; Sub-Category: Oscillator; Category: IC; RoHS Compliant: Yes; Manufacturer Part Number: 830207659009; Component Type: Standard_IC_Osc; Value: 830207659009
footprint OSCCC32X25X12 (3.2x2.5x1.2mm Corner Concave Oscillator 4 leads); pin to pad EN>1 GND>2 OUT>3 VDD>4
pins: EN, GND, OUT, VDD

## 860040480016
designator C?  Notes: 2m7, 25V, 10000h@105°  (hidden comment: 860040480016)
Aluminum Electrolytic Capacitor, Aluminum (wet); Manufacturer: Würth Elektronik; Capacitor Type: Aluminium; Pins: 2; Category: Capacitor; Sub-Category: Electrolytic; RoHS Compliant: Yes; Reach SVHC Compliant: Yes; Dielectric Material: Aluminium; Manufacturer Part Number: 860040480016; Component Type: Standard_Passive_C; Value: 860040480016
footprint CAPAE16X25 (Aluminum Electrolityc Cap 16mm Diameter 25mm Heigth 7.5mm pitch)
pins: +, -

## 860160378038
designator C?  Notes: 2m2, 16V, 7000h@150°  (hidden comment: 860160378038)
Alum. Electrolytic Cap 2200µF 16V 13mm Radial WCAP-ATLL; Lifetime 7000h +105°C; Manufacturer: Würth Elektronik; Impedance: 90mR; Ripple Current: 2.082A; Polarity: Polar; Life (Hours): 7000Hour; Tolerance: 20%; Capacitance: 2.2mF; Height - Seated (Max): 0.846inch; RoHS Compliant: Yes; Max Operating Temperature: 105°C; Sub-Category: Electrolytic; Mount: Through Hole; Min Operating Temperature: -55°C; Packaging: Tape and Reel; Category: Capacitor; Package Quantity: 300; Voltage Rating: 16V; Lead Pitch: 0.197inch; Case/Package: Radial; Manufacturer Part Number: 860160378038; Component Type: Standard_Passive_C; Value: 860160378038
footprint CAPAE13X20 (Aluminium electrolytic capacitor, polarized 13mm diameter, 20mm height, 5mm pitch)
pins: +, -

## 860240475007
designator C?  Notes: 220u, 25V, 1000h@105°C  (hidden comment: 860240475007)
WCAP-AT1H Aluminum Electrolytic Capacitor, Radial THT, D10xH16mm, 220uF, 25V; Manufacturer: Würth Elektronik; Capacitance Tolerance: +/-20%; Dissipation Factor: 14%; Endurance: 10000h; Leakage Current: 55uA; Ripple Current: 580mA; Technical Reference: ATDF160221M025DSPAAK000; ComponentLink1Description: Manufacturer Link; ComponentLink1URL: https://www.we-online.com/redexpert/article/860240475007?ad; ComponentLink2Description: Datasheet; ComponentLink2URL: https://www.we-online.com/redexpert/spec/860240475007?ad; Category: Capacitor; Match Code: WCAP-AT1H; Manufacturer Part Number: 860240475007; Mount: Through Hole; Operating Temperature Max: 105°C; Operating Temperature Min: -40°C; Packaging: Ammo Pack; Height: 16mm; Diameter: 10mm; Rated Voltage (DC): 25V; Capacitance: 220uF; Sub-Category: Electrolytic; Value: 860240475007
footprint WCAP-AT1H_D10H16 (Aluminium Electrolytic Radial THD Capacitors, 10x16mm)
pins: +, -

## 865060457009
designator C?  Notes: 470u, 25V, 5000h@105°  (hidden comment: 865060457009)
SMD Aluminium Electrolytic Capacitor, WCAP-ASLL Series, 470uF, 25 V, Radial Can - SMD, 10 mm ;RoHS Compliant: Yes; Manufacturer: Würth Elektronik; Sub-Category: Electrolytic; Category: Capacitor; Manufacturer Part Number: 865060457009; Component Type: Standard_Passive_C; Value: 865060457009
footprint CAPAE106103X105M (Aluminum Electrolytic Capacitor, Body 10.30x10.30x10.50mm, IPC Low Density)
pins: +, -

## 865060640003
designator C?  Notes: 3u3, 50V, 2000h@105°  (hidden comment: 865060640003)
WCAP-ASLL Aluminum Electrolytic Capacitor, V-Chip, SMT, D4xH5.5mm, 3.3uF, 50V; Manufacturer: Würth Elektronik; Technical Reference: ASEB0553R3M050DVCTAB000; Ripple Current: 60mA; Capacitance Tolerance: +/-20%; Rated Voltage: 50VDC; Dissipation Factor: 12%; Endurance: 2000h; Leakage Current: 3uA; Operating Temperature: -55 to +105degC; Mounting Technology: SMT; ComponentLink1URL: http://www.we-online.de; ComponentLink1Description: Manufacturer; Packaging: Tape and Reel; Published Date: October 2020; Manufacturer Part Number: 865060640003; ComponentLink2Description: Datasheet; ComponentLink2URL: https://www.we-online.com/catalog/datasheet/865060640003.pdf; Diameter: 4mm; Capacitance: 3.3uF; Height: 5.5mm; Category: Capacitor; Sub-Category: Electrolytic; Value: 865060640003
footprint WCAP-ASLL_D4H5.5 (Aluminium Electrolytic V-Chip SMT Capacitors, 4x5.5mm)
pins: +, -

## 865060753005
designator C?  Notes: 47u, 63V  (hidden comment: 865060753005)
WCAP-ASLL Aluminum Electrolytic Capacitor, V-Chip, SMT, D8 x H10.5mm, 47uF, 63V; Manufacturer: Würth Elektronik; Capacitance Tolerance: +/-20%; Dissipation Factor: 10%; Endurance: 5000h; Leakage Current: 29.61uA; Ripple Current: 280mA; Technical Reference: ASEE105470M063DVCTEE000; Category: Capacitor; Match Code: WCAP-ASLL; ComponentLink1Description: Website Link; ComponentLink1URL: https://www.we-online.com/redexpert/article/865060753005?ad; ComponentLink2Description: Datasheet Link; ComponentLink2URL: https://www.we-online.com/redexpert/spec/865060753005?ad; Mount: Surface Mount; Operating Temperature Max: 105°C; Operating Temperature Min: -55°C; Packaging: Tape and Reel; Height: 10.5mm; Diameter: 8mm; Capacitance: 47uF; Rated Voltage (DC): 63V; Sub-Category: Electrolytic; Value: 865060753005
footprint WCAP-ASLL_D8H10.5
pins: + P, - N

## 865230343004
designator C?  Notes: 47µF, 16V  (hidden comment: 865230343004)
WCAP-AS5H Aluminum Electrolytic Capacitor, V-Chip, D6.3 x H5.5mm, 47µF, 16V; Manufacturer: Würth Elektronik; Capacitance Tolerance: +/-20%; Dissipation Factor: 22%; Endurance: 5000h; Leakage Current: 7.52µA; Ripple Current: 50mA; Technical Reference: ASDD055470M016DVCTBE000; Manufacturer Part Number: 865230343004; Category: Capacitor; Match Code: WCAP-AS5H; ComponentLink1Description: Website Link; ComponentLink1URL: https://www.we-online.com/redexpert/article/865230343004?ad; ComponentLink2Description: Datasheet Link; ComponentLink2URL: https://www.we-online.com/redexpert/spec/865230343004?ad; Mount: Surface Mount; Operating Temperature Max: 105°C; Operating Temperature Min: -40°C; Packaging: Tape and Reel; Height: 5.5mm; Diameter: 6.3mm; Rated Voltage (DC): 16V; Sub-Category: Electrolytic; Value: 865230343004
footprint WCAP-AS5H_D6.3H5.5
pins: + P, - N

## 865230445005
designator C?  Notes: 47u, 25V, 5000h@105°  (hidden comment: 865230445005)
SMD Aluminium Electrolytic Capacitor, Radial Can - SMD, 47uF, 25 V, WCAP-AS5H Series; Manufacturer: Würth Elektronik; Sub-Category: Electrolytic; Category: Capacitor; Manufacturer Part Number: 865230445005; Component Type: Standard_Passive_C; Value: 865230445005
footprint CAPAE7066X77M (Aluminum Electrolytic Capacitor, Body 6.60x6.60x7.70mm, IPC Low Density)
pins: +, -

## 865230453006
designator C?  Notes: 100u, 25V, 5000h@105°  (hidden comment: 865230453006)
Aluminum Electrolytic Capacitor, Polarized, Aluminum (wet), 25V, 20% +Tol, 20% -Tol, 100uF, Surface Mount, 3333; Manufacturer: Würth Elektronik; RoHS Compliant: Yes; Sub-Category: Electrolytic; Category: Capacitor; Manufacturer Part Number: 865230453006; Component Type: Standard_Passive_C; Value: 865230453006
footprint CAPAE8683X105M (Aluminum Electrolytic Capacitor, Body 8.30x8.30x10.50mm, IPC Low Density)
pins: +, -

## 885012208003
designator C?  Package: 1206  Notes: 10u, 6V3, X7R  (hidden comment: 885012208003)
CAP CER 10UF 6.3V X7R 1206; Manufacturer: Würth Elektronik; Dielectric Material: Ceramic; Category: Capacitor; Capacitor Type: Ceramic; Sub-Category: MLCC; Number of Pins: 2; REACH SVHC: Yes; RoHS Compliant: Yes; Manufacturer Part Number: 885012208003; Component Type: Standard_Passive_C; Value: 885012208003
footprint C_NP_1206
pins: 1, 2

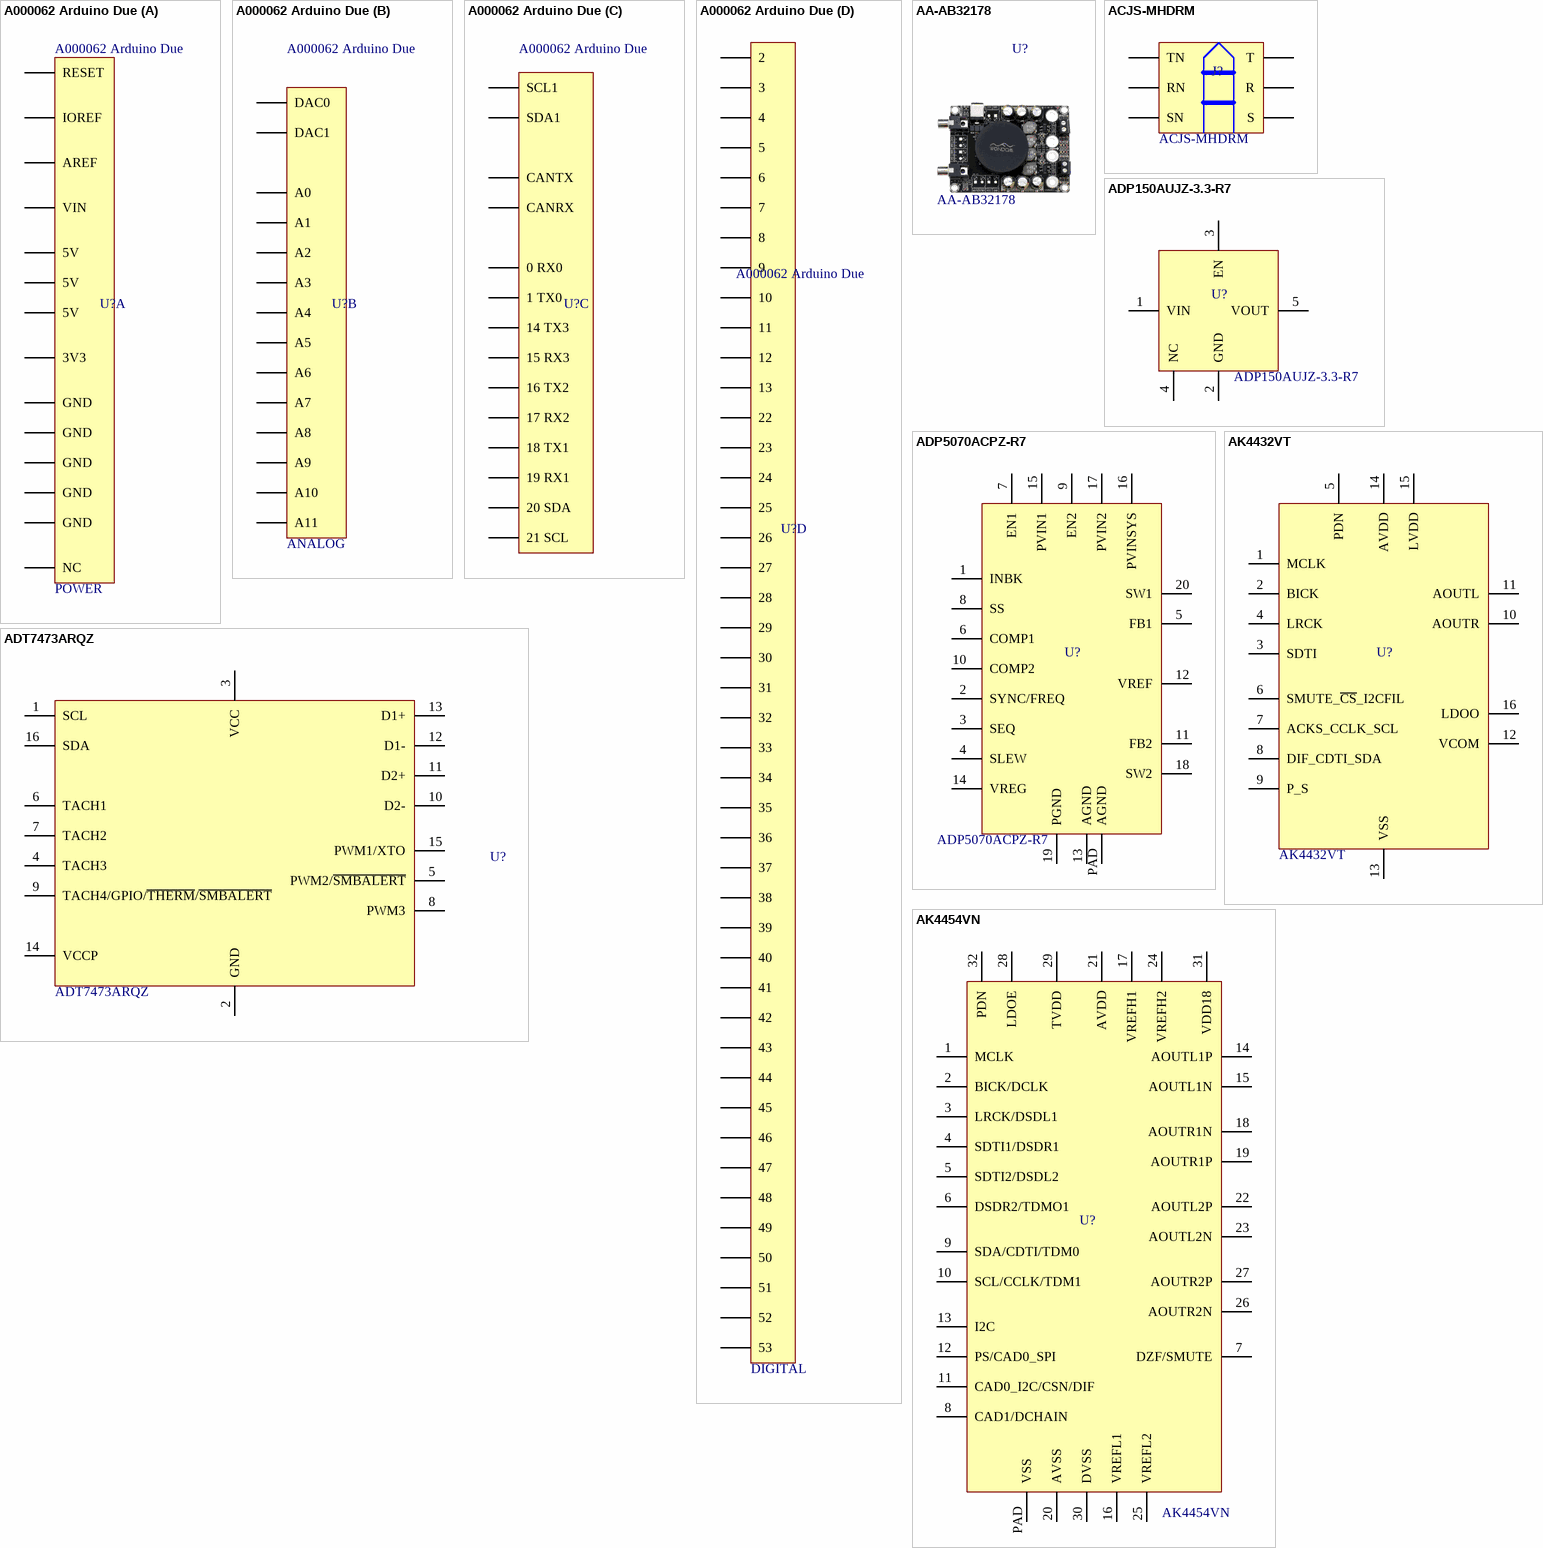
[diagram p3: symbols A000062 Arduino Due to AK4454VN]

## A000062 Arduino Due
designator U?
Arduino Due 32-Bit ARM Cortex-M3 ATSAM3X8E; Sub-Category: CPU; Category: Module; Manufacturer: Arduino; Component Type: Standard_IC_CPU; Value: A000062 Arduino Due
footprint Arduino Due
part A pins: 3V3, 5V_0 5V, 5V_1 5V, 5V_2 5V, AREF, GND_0 GND, GND_1 GND, GND_2 GND, GND_3 GND, GND_4 GND, IOREF, NC, RESET, VIN
part B pins: A0, A1, A2, A3, A4, A5, A6, A7, A8, A9, A10, A11, DAC0, DAC1
part C pins: 0 RX0, 1 TX0, 14 TX3, 15 RX3, 16 TX2, 17 RX2, 18 TX1, 19 RX1, 20 SDA, 21 SCL, CANRX, CANTX, SCL1, SDA1
part D pins: 2, 3, 4, 5, 6, 7, 8, 9, 10, 11, 12, 13, 22, 23, 24, 25, 26, 27, 28, 29, 30, 31, 32, 33, 34, 35, 36, 37, 38, 39, 40, 41, 42, 43, 44, 45, 46, 47, 48, 49, 50, 51, 52, 53
part A text: POWER
part B text: ANALOG
part D text: DIGITAL

## AA-AB32178
designator U?
2 X 50WATT CLASS D AUDIO AMPLIFIER BOARD - TPA3116; Manufacturer: Wondom; Category: Module; Sub-Category: Amp; Component Type: Standard_Misc; Value: AA-AB32178
footprint WONDOM AA-AB32178 (2 X 50WATT CLASS D AUDIO AMPLIFIER BOARD - TPA3116)

## ACJS-MHDRM
designator J?
Phone Connectors 1/4"Pigybac HOR CHASSIS CONN; Manufacturer: Amphenol; Category: Connector; Sub-Category: Jack; Value: ACJS-MHDRM
footprint ACJS-MHDR (Phone Connectors 1/4" PHON SKT STEREO HPCB SNAPFIT MTL NU)
pins: R, RN, S, SN, T, TN

## ADP150AUJZ-3.3-R7
designator U?
Ultralow Noise, 150 mA, CMOS Linear Regulator; Manufacturer: Analog Device; Category: IC; Sub-Category: Power; Package: SOT-23-5; Value: ADP150AUJZ-3.3-R7
footprint SOT95P280X100-5N (SOT23, 5-Leads, Body 2,90x2,80mm, Pitch 0,95mm, IPC Medium Density)
pins: 1 VIN, 2 GND, 3 EN, 4 NC, 5 VOUT

## ADP5070ACPZ-R7
designator U?
Manufacturer: Analog Devices; Category: IC; Sub-Category: Power; Value: ADP5070ACPZ-R7
footprint QFN50P400X400X80_HS-21N (QFN, 20-Leads, Body 4,00x4,00mm, Pitch 0,50mm, Thermal Pad 2,70x2,70mm, IPC Medium Density)
pins: 1 INBK, 2 SYNC/FREQ, 3 SEQ, 4 SLEW, 5 FB1, 6 COMP1, 7 EN1, 8 SS, 9 EN2, 10 COMP2, 11 FB2, 12 VREF, 13 AGND, 14 VREG, 15 PVIN1, 16 PVINSYS, 17 PVIN2, 18 SW2, 19 PGND, 20 SW1, PAD AGND

## ADT7473ARQZ
designator U?
Fan Controller And Internal Monitor; Manufacturer: On Semiconductors; Manufacturer Part Number: ADT7473ARQZ-1RL; Operating Supply Voltage: 3.3V; Interface: Serial,3-WIRE,4-WIRE; Min Supply Voltage: 3V; Accuracy: 2.5%; Output Type: Digital; Max Supply Voltage: 3.6V; Lead Free: Lead Free; Max Operating Temperature: 125°C; Case/Package: QSOP; Mounting Technology: Surface Mount; RoHS Compliant: Yes; Sub-Category: Power; Category: IC; Packaging: Rail/Tube; Min Operating Temperature: -40°C; Series: dBCool®; Component Type: Standard_IC_Power; Package: QSOP16; Value: ADT7473ARQZ
footprint SOP64P600X175-16N (SOP, 16-Leads, Body 4,89x3,90mm, Pitch 0,64mm, IPC Medium Density)
pins: 1 SCL, 2 GND, 3 VCC, 4 TACH3, 5 PWM2/~{SMBALERT}, 6 TACH1, 7 TACH2, 8 PWM3, 9 TACH4/GPIO/~{THERM}/~{SMBALERT}, 10 D2-, 11 D2+, 12 D1-, 13 D1+, 14 VCCP, 15 PWM1/XTO, 16 SDA

## AK4432VT
designator U?
Audio D/A Converter ICs DAC Gen3 32bit 192kHz 108dB 2ch SCDF; Manufacturer: AKM; Category: IC; Sub-Category: Audio; Package: TSSOP16; Value: AK4432VT
footprint TSOP65P630X110-16N (TSOP, 16-Leads, Body 5,00x4,40mm, Pitch 0,65mm, IPC Medium Density)
pins: 1 MCLK, 2 BICK, 3 SDTI, 4 LRCK, 5 PDN, 6 SMUTE_~{CS}_I2CFIL, 7 ACKS_CCLK_SCL, 8 DIF_CDTI_SDA, 9 P_S, 10 AOUTR, 11 AOUTL, 12 VCOM, 13 VSS, 14 AVDD, 15 LVDD, 16 LDOO

## AK4454VN
designator U?
115dB 768kHz 32-bit 4ch Premium DAC; Manufacturer: AKM; Category: IC; Sub-Category: DAC; Value: AK4454VN
footprint QFN50P500X500X80_HS-33N (QFN, 32-Leads, Body 5,00x5,00mm, Pitch 0,50mm, Thermal Pad 3,70x3,70mm, IPC Medium Density)
pins: 1 MCLK, 2 BICK/DCLK, 3 LRCK/DSDL1, 4 SDTI1/DSDR1, 5 SDTI2/DSDL2, 6 DSDR2/TDMO1, 7 DZF/SMUTE, 8 CAD1/DCHAIN, 9 SDA/CDTI/TDM0, 10 SCL/CCLK/TDM1, 11 CAD0_I2C/CSN/DIF, 12 PS/CAD0_SPI, 13 I2C, 14 AOUTL1P, 15 AOUTL1N, 16 VREFL1, 17 VREFH1, 18 AOUTR1N, 19 AOUTR1P, 20 AVSS, 21 AVDD, 22 AOUTL2P, 23 AOUTL2N, 24 VREFH2, 25 VREFL2, 26 AOUTR2N, 27 AOUTR2P, 28 LDOE, 29 TVDD, 30 DVSS, 31 VDD18, 32 PDN, PAD VSS

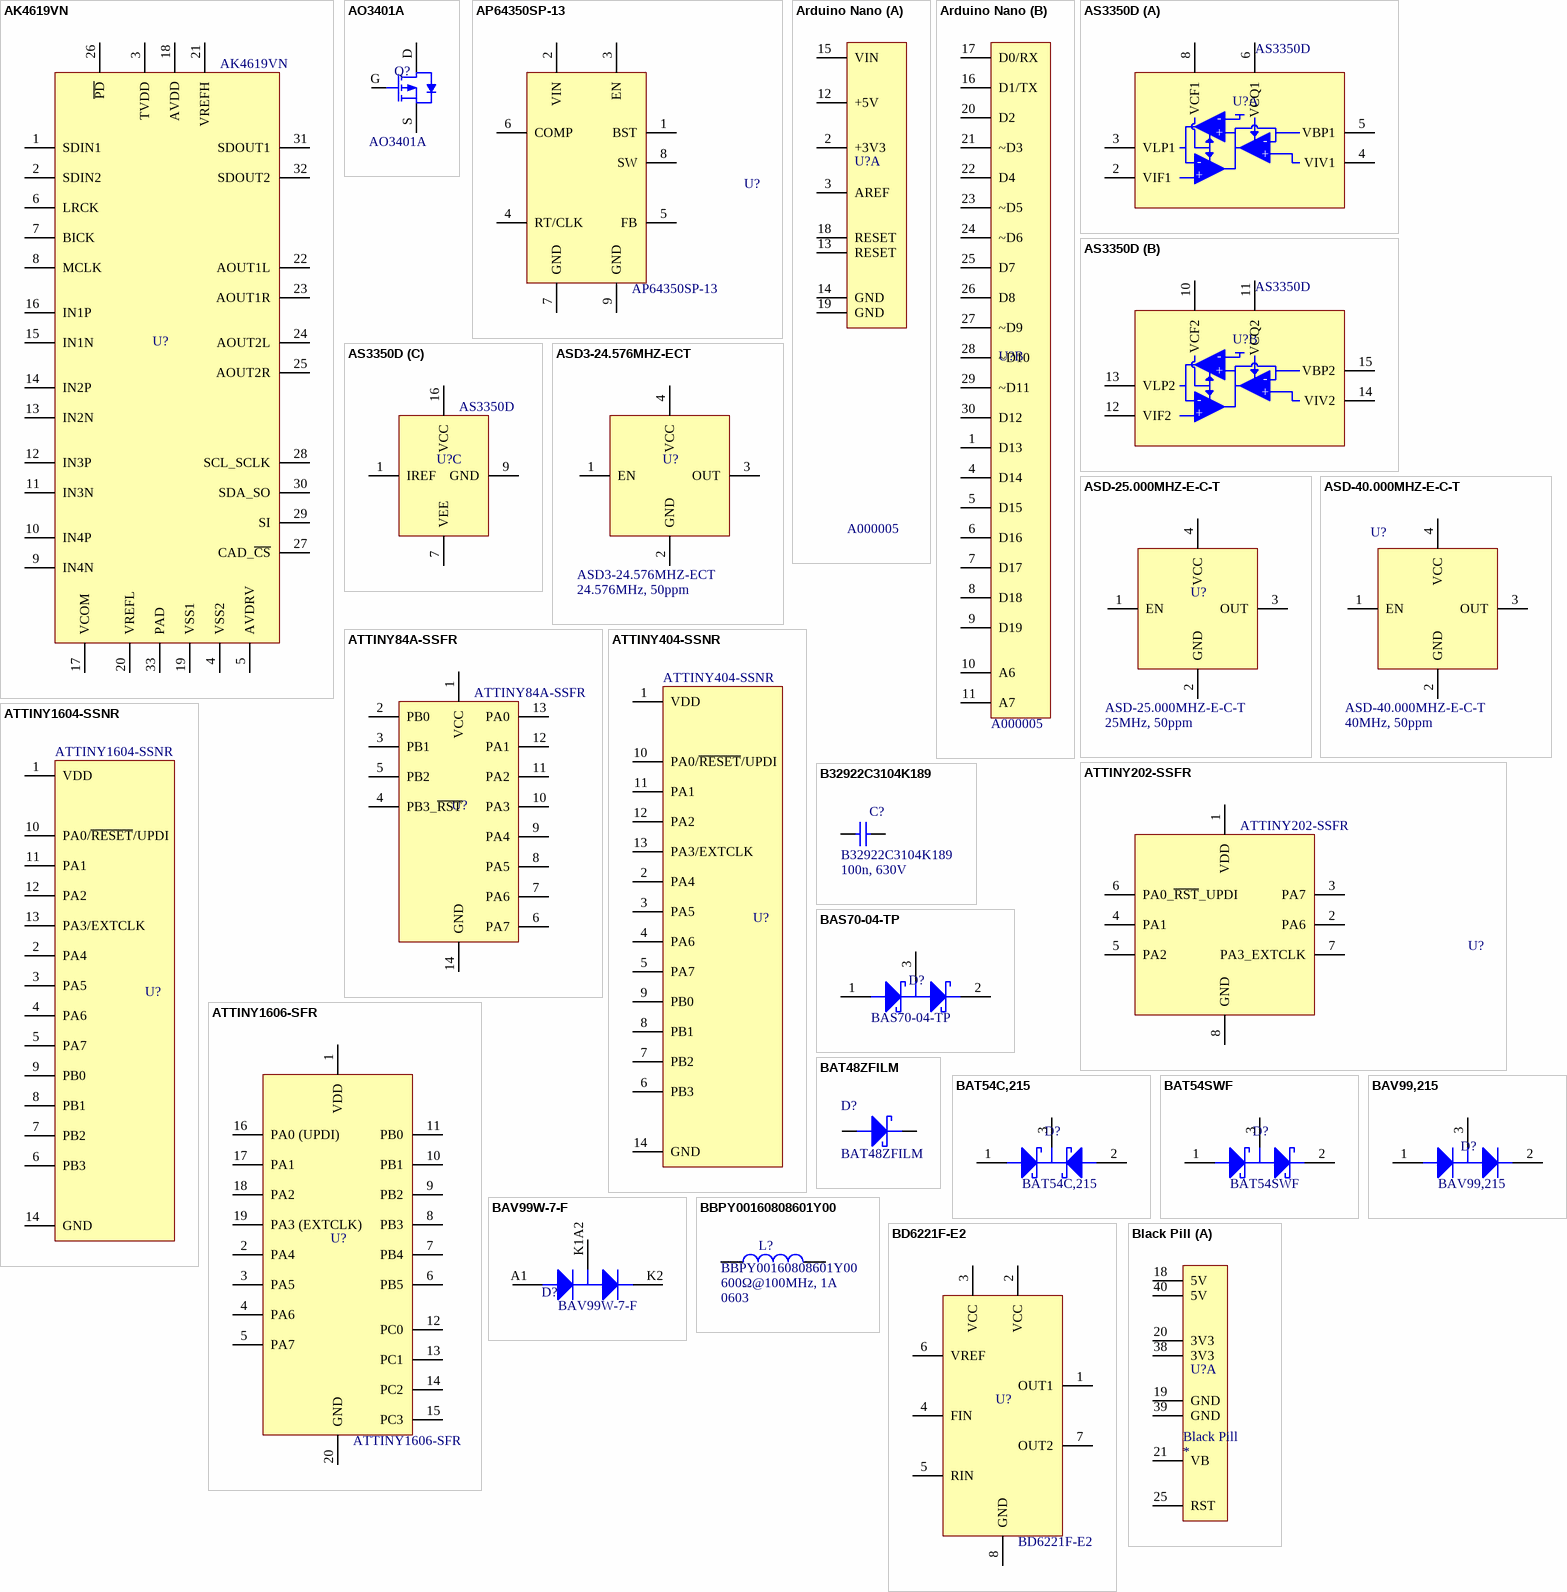
[diagram p4: symbols AK4619VN to Black Pill]

## AK4619VN
designator U?
CODEC 24BIT 4AD/4DA 192KHZ TDM; Manufacturer: AKM; Category: IC; Sub-Category: Audio; Package: QFN32; Value: AK4619VN
footprint QFN50P500X500X80_HS-33N (QFN, 32-Leads, Body 5,00x5,00mm, Pitch 0,50mm, Thermal Pad 3,70x3,70mm, IPC Medium Density)
pins: 1 SDIN1, 2 SDIN2, 3 TVDD, 4 VSS2, 5 AVDRV, 6 LRCK, 7 BICK, 8 MCLK, 9 IN4N, 10 IN4P, 11 IN3N, 12 IN3P, 13 IN2N, 14 IN2P, 15 IN1N, 16 IN1P, 17 VCOM, 18 AVDD, 19 VSS1, 20 VREFL, 21 VREFH, 22 AOUT1L, 23 AOUT1R, 24 AOUT2L, 25 AOUT2R, 26 ~{PD}, 27 CAD_~{CS}, 28 SCL_SCLK, 29 SI, 30 SDA_SO, 31 SDOUT1, 32 SDOUT2, 33 PAD

## AO3401A
designator Q?
1 P-Channel 14nC@10V 30V 47mΩ@10V 4A 55pF 645pF 80pF 900mV@250uA SOT-23 MOSFETs ROHS; Manufacturer: Alpha & Omega Semicon; Category: Transistor; Sub-Category: MOSFET; Package: SOT1220; Value: AO3401A
footprint SOT95P280X125-3N (SOT23, 3-Leads, Body 2,95x2,80mm, Pitch 0,95mm, IPC Medium Density); pin to pad D>3 G>1 S>2
pins: D, G, S

## AP64350SP-13
designator U?
Switching Voltage Regulators 3.8V-40V 3.5A LOW IQ SYN BUCK PRG SW FRQ; Manufacturer: Diodes Incorporated; Category: IC; Sub-Category: Power; Manufacturer Part Number: AP64350SP-13; Component Type: Standard_IC_Power; Package: SOIC8; Value: AP64350SP-13
footprint SOIC127P600X163_HS-9N (SOIC, 8-Leads, Body 4.90x3.90mm, Pitch 1.27mm, Thermal Pad 3.35x2.71mm, IPC Medium Density)
pins: 1 BST, 2 VIN, 3 EN, 4 RT/CLK, 5 FB, 6 COMP, 7 GND, 8 SW, 9 GND

## Arduino Nano
designator U?, comment A000005
Development Boards & Kits - AVR NANO V3 (ARDUINO) A000005; Manufacturer: Arduino; Category: Module; Sub-Category: CPU; Value: A000005
footprint Arduino Nano
part A pins: 2 +3V3, 3 AREF, 12 +5V, 13 RESET, 14 GND, 15 VIN, 18 RESET, 19 GND
part B pins: 1 D13, 4 D14, 5 D15, 6 D16, 7 D17, 8 D18, 9 D19, 10 A6, 11 A7, 16 D1/TX, 17 D0/RX, 20 D2, 21 ~D3, 22 D4, 23 ~D5, 24 ~D6, 25 D7, 26 D8, 27 ~D9, 28 ~D10, 29 ~D11, 30 D12

## AS3350D
designator U?
Dual Voltage Controlled State Variable Filter; Manufacturer: Alfa Rpar; Category: IC; Sub-Category: Audio; Package: SOIC16; Value: AS3350D
footprint SOIC127P600X175-16N (SOIC, 16-Leads, Body 10,40x3,95mm, Pitch 1,27mm, IPC Medium Density)
part A pins: 2 VIF1, 3 VLP1, 4 VIV1, 5 VBP1, 6 VCQ1, 8 VCF1
part B pins: 10 VCF2, 11 VCQ2, 12 VIF2, 13 VLP2, 14 VIV2, 15 VBP2
part C pins: 1 IREF, 7 VEE, 9 GND, 16 VCC
part A text: -; +
part B text: -; +

## ASD3-24.576MHZ-ECT
designator U?  Notes: 24.576MHz, 50ppm  (hidden comment: ASD3-24.576MHZ-ECT)
24.576MHz Oscillator 2.5x2mm; Manufacturer: Abracon; Category: IC; Sub-Category: Oscillator; Value: ASD3-24.576MHZ-ECT
footprint 2.5*2mm Osc
pins: 1 EN, 2 GND, 3 OUT, 4 VCC

## ASD-25.000MHZ-E-C-T
designator U?  Notes: 25MHz, 50ppm  (hidden comment: ASD-25.000MHZ-E-C-T)
25MHz Oscillator 2.5x2mm; Manufacturer: Abracon; Category: IC; Sub-Category: Oscillator; Value: ASD-25.000MHZ-E-C-T
footprint 2.5*2mm Osc
pins: 1 EN, 2 GND, 3 OUT, 4 VCC

## ASD-40.000MHZ-E-C-T
designator U?  Notes: 40MHz, 50ppm  (hidden comment: ASD-40.000MHZ-E-C-T)
40MHz Oscillator 2.5x2mm; Manufacturer: Abracon; Category: Logic; Sub-Category: Oscillator; Value: ASD-40.000MHZ-E-C-T
footprint 2.5*2mm Osc
pins: 1 EN, 2 GND, 3 OUT, 4 VCC